# Altium schematic symbol library snes_hook_parts.SchLib: 29 symbols
Pins are listed as number, name and electrical type; pins without a type are passive.

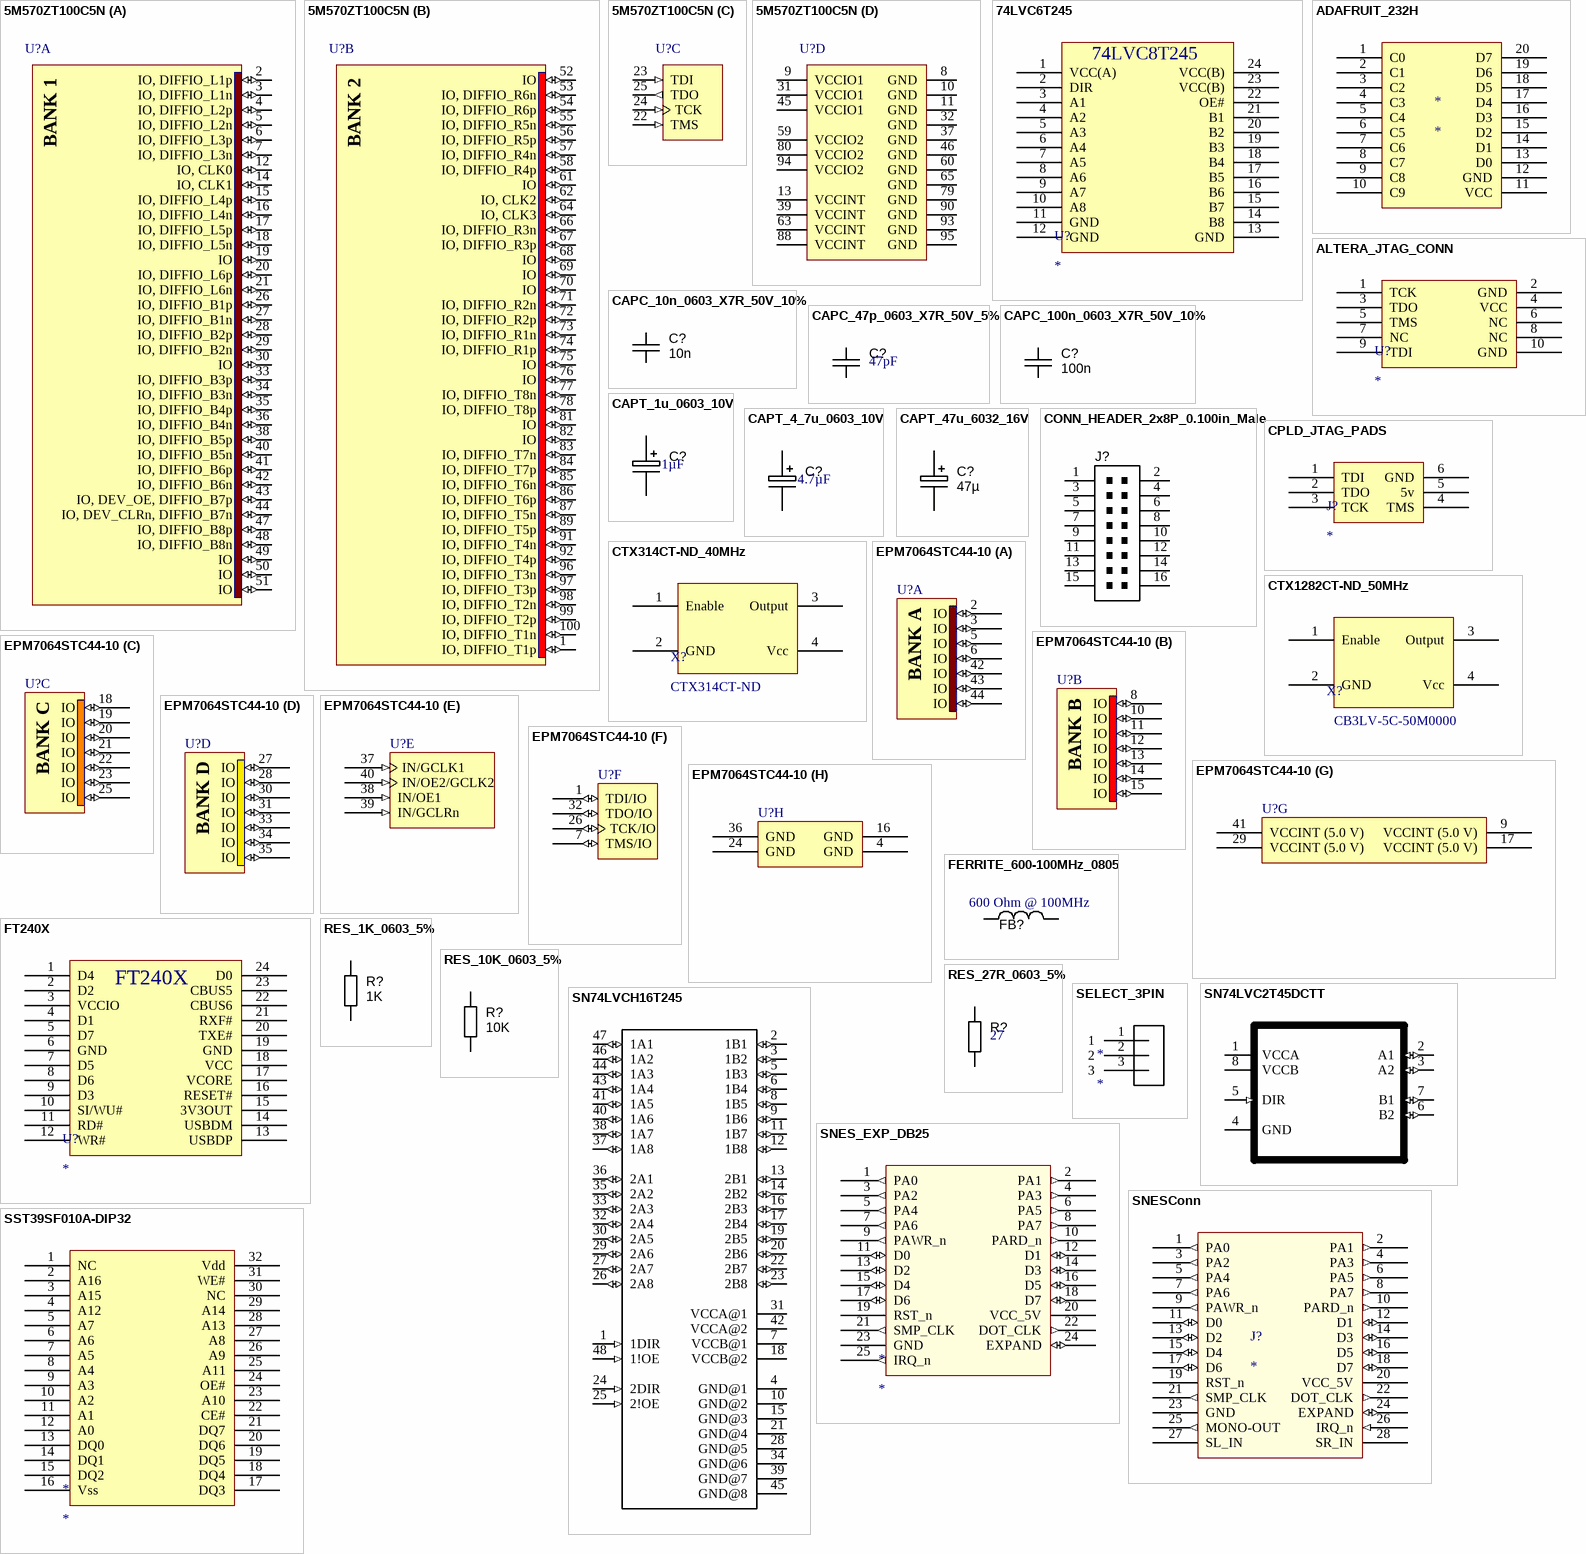
[diagram p0: symbols 5M570ZT100C5N to SST39SF010A-DIP32]

## 5M570ZT100C5N
designator U?
MAX V 1.8V CPLD, 74 IOs, 570 Logic Elements, 100-Pin TQFP, Commercial Temperature, Speed Grade 5, Pb-Free; DatasheetVersion: ver1.2, May-2011; PackageVersion: ver1.0, Jul-2011; PackageReference: TQFP100_A-120; PackageDescription: 100-Pin Plastic Thin Quad Flat Pack (TQFP) - Wire Bond - A:1.20; Code_JEDEC: MS-029-AED; ComponentLink1Description: Manufacturer URL; ComponentLink1URL: http://www.altera.com/; ComponentLink2Description: Datasheet; ComponentLink2URL: http://www.altera.com/literature/hb/max-v/max5_handbook.pdf; ComponentLink3Description: MAX V Device Pin-Out files; ComponentLink3URL: http://www.altera.com/literature/lit-dp.jsp?category=MAX%205&showspreadsheet=y; ComponentLink4Description: Package Specification; ComponentLink4URL: http://www.altera.com/devicepackaging/04R00365-01.pdf
footprint TQFP100_A-120_N (Thin QFP, 100-Leads, Body 14x14mm, Pitch 0.5mm, IPC Medium Density)
footprint TQFP100_A-120_L (Thin QFP, 100-Leads, Body 14x14mm, Pitch 0.5mm, IPC High Density)
footprint TQFP100_A-120_M (Thin QFP, 100-Leads, Body 14x14mm, Pitch 0.5mm, IPC Low Density)
part A pins: 2 IO, DIFFIO_L1p (io), 3 IO, DIFFIO_L1n (io), 4 IO, DIFFIO_L2p (io), 5 IO, DIFFIO_L2n (io), 6 IO, DIFFIO_L3p (io), 7 IO, DIFFIO_L3n (io), 12 IO, CLK0 (io), 14 IO, CLK1 (io), 15 IO, DIFFIO_L4p (io), 16 IO, DIFFIO_L4n (io), 17 IO, DIFFIO_L5p (io), 18 IO, DIFFIO_L5n (io), 19 IO (io), 20 IO, DIFFIO_L6p (io), 21 IO, DIFFIO_L6n (io), 26 IO, DIFFIO_B1p (io), 27 IO, DIFFIO_B1n (io), 28 IO, DIFFIO_B2p (io), 29 IO, DIFFIO_B2n (io), 30 IO (io), 33 IO, DIFFIO_B3p (io), 34 IO, DIFFIO_B3n (io), 35 IO, DIFFIO_B4p (io), 36 IO, DIFFIO_B4n (io), 38 IO, DIFFIO_B5p (io), 40 IO, DIFFIO_B5n (io), 41 IO, DIFFIO_B6p (io), 42 IO, DIFFIO_B6n (io), 43 IO, DEV_OE, DIFFIO_B7p (io), 44 IO, DEV_CLRn, DIFFIO_B7n (io), 47 IO, DIFFIO_B8p (io), 48 IO, DIFFIO_B8n (io), 49 IO (io), 50 IO (io), 51 IO (io)
part B pins: 1 IO, DIFFIO_T1p (io), 52 IO (io), 53 IO, DIFFIO_R6n (io), 54 IO, DIFFIO_R6p (io), 55 IO, DIFFIO_R5n (io), 56 IO, DIFFIO_R5p (io), 57 IO, DIFFIO_R4n (io), 58 IO, DIFFIO_R4p (io), 61 IO (io), 62 IO, CLK2 (io), 64 IO, CLK3 (io), 66 IO, DIFFIO_R3n (io), 67 IO, DIFFIO_R3p (io), 68 IO (io), 69 IO (io), 70 IO (io), 71 IO, DIFFIO_R2n (io), 72 IO, DIFFIO_R2p (io), 73 IO, DIFFIO_R1n (io), 74 IO, DIFFIO_R1p (io), 75 IO (io), 76 IO (io), 77 IO, DIFFIO_T8n (io), 78 IO, DIFFIO_T8p (io), 81 IO (io), 82 IO (io), 83 IO, DIFFIO_T7n (io), 84 IO, DIFFIO_T7p (io), 85 IO, DIFFIO_T6n (io), 86 IO, DIFFIO_T6p (io), 87 IO, DIFFIO_T5n (io), 89 IO, DIFFIO_T5p (io), 91 IO, DIFFIO_T4n (io), 92 IO, DIFFIO_T4p (io), 96 IO, DIFFIO_T3n (io), 97 IO, DIFFIO_T3p (io), 98 IO, DIFFIO_T2n (io), 99 IO, DIFFIO_T2p (io), 100 IO, DIFFIO_T1n (io)
part C pins: 22 TMS (in), 23 TDI (in), 24 TCK (in), 25 TDO (out)
part D pins: 8 GND (power), 9 VCCIO1 (power), 10 GND (power), 11 GND (power), 13 VCCINT (power), 31 VCCIO1 (power), 32 GND (power), 37 GND (power), 39 VCCINT (power), 45 VCCIO1 (power), 46 GND (power), 59 VCCIO2 (power), 60 GND (power), 63 VCCINT (power), 65 GND (power), 79 GND (power), 80 VCCIO2 (power), 88 VCCINT (power), 90 GND (power), 93 GND (power), 94 VCCIO2 (power), 95 GND (power)
part A text: BANK 1
part B text: BANK 2

## 74LVC6T245
designator U?
footprint TSSOP24
pins: 1 VCC(A), 2 DIR, 3 A1, 4 A2, 5 A3, 6 A4, 7 A5, 8 A6, 9 A7, 10 A8, 11 GND, 12 GND, 13 GND, 14 B8, 15 B7, 16 B6, 17 B5, 18 B4, 19 B3, 20 B2, 21 B1, 22 OE#, 23 VCC(B), 24 VCC(B)
text: 74LVC8T245

## ADAFRUIT_232H
designator *
footprint ADAFRUIT_232H
pins: 1 C0, 2 C1, 3 C2, 4 C3, 5 C4, 6 C5, 7 C6, 8 C7, 9 C8, 10 C9, 11 VCC, 12 GND, 13 D0, 14 D1, 15 D2, 16 D3, 17 D4, 18 D5, 19 D6, 20 D7

## ALTERA_JTAG_CONN
designator U?
footprint JTAG_CONN
pins: 1 TCK, 2 GND, 3 TDO, 4 VCC, 5 TMS, 6 NC, 7 NC, 8 NC, 9 TDI, 10 GND

## CAPC_10n_0603_X7R_50V_10%
designator C?, comment value 10n  (hidden comment: approved sub OK)
Capacitor SMD Cer 10nF 10% 50V X7R 0603; Manufacturer 1: TDK Corporation; Manufacturer Part Number 1: C1608X7R1H103K; Ratings: 50V; X7R; Material: ceramic; SCDType: spec; Package / Case: 0603 (1608 metric); Tolerance: ±10%; Supplier 1: Digi-Key; Supplier Part Number 1: 445-1311-1-ND; ComponentLink1URL: http://product.tdk.com/capacitor/mlcc/en/documents/mlcc_commercial_general_en.pdf; ComponentLink1Description: http://product.tdk.com/capacitor/mlcc/en/documents/mlcc_commercial_general_en.pdf; Supplier 2: Digi-Key; Supplier Part Number 2: 478-1227-1-ND; Manufacturer 2: AVX Corporation; Manufacturer Part Number 2: 06035C103KAT2A; ComponentLink2URL: http://www.avx.com/docs/Catalogs/cx7r.pdf; ComponentLink2Description: http://www.avx.com/docs/Catalogs/cx7r.pdf
footprint CAPC1608X90N (Chip Capacitor, Body 1.6x0.8mm, 0603, IPC Medium Density)
pins: 1, 2

## CAPC_47p_0603_X7R_50V_5%
designator C?  Capacitance: 47pF
Capacitor SMD Cer 47pF 5% 50V X7R 0603; Manufacturer 1: Samsung Electro-Mechanics America, Inc.; Manufacturer Part Number 1: CL10C470JB8NCNC; Description 1: CAP CER 47PF 50V NP0 0603; Temperature Coefficient: C0G, NP0; Supplier 1: Digi-Key; RoHS 1: RoHS Compliant; Category 1: Capacitors; Stock 1: 128540; Pricing 1: 1=0.1, 10=0.027, 25=0.0192, 50=0.0148, 100=0.0125, 500=0.00878, 1000=0.00684 (USD); Packaging: Cut Tape (CT); Tolerance: ±5%; Voltage - Rated: 50V; Mounting Type: Surface Mount, MLCC; Operating Temperature: -55°C ~ 125°C; Applications: General Purpose; Ratings: -; Package / Case: 0603 (1608 Metric); Size / Dimension: 0.063" L x 0.031" W (1.60mm x 0.80mm); Height - Seated (Max): -; Thickness (Max): 0.035" (0.90mm); Lead Spacing: -; Features: -; Lead Style: -; ComponentLink1URL: http://media.digikey.com/pdf/Data%20Sheets/Samsung%20PDFs/CL10C470JB8NCNC_Spec.pdf; ComponentLink1Description: http://media.digikey.com/pdf/Data%20Sheets/Samsung%20PDFs/CL10C470JB8NCNC_Spec.pdf; Supplier Part Number 1: 1276-2296-1-ND
footprint CAPC1608X90N (Chip Capacitor, Body 1.6x0.8mm, 0603, IPC Medium Density)
footprint CAPC3216N (Chip Capacitor, Body 3.2x1.6mm, IPC Medium Density)
footprint CAPC2012N (Chip Capacitor, Body 2.0x1.2mm, IPC Medium Density)
pins: 1, 2

## CAPC_100n_0603_X7R_50V_10%
designator C?, comment value 100n  (hidden comment: approved sub OK)
Capacitor SMD Cer 100nF 10% 50V X7R 0603; Manufacturer 1: AVX Corporation; Manufacturer Part Number 1: 06035C104KAT2A; Ratings: 50V; X7R; Material: ceramic; SCDType: spec; Manufacturer 2: TDK Corporation; Manufacturer Part Number 2: C1608X7R1H104K; Package / Case: 0603 (1608 Metric); Tolerance: ±10%; Supplier 1: Digi-Key; Supplier Part Number 1: 478-5052-1-ND; ComponentLink1URL: http://www.avx.com/docs/Catalogs/cx7r.pdf; ComponentLink1Description: http://www.avx.com/docs/Catalogs/cx7r.pdf; Supplier 2: Digi-Key; Supplier Part Number 2: 445-1314-1-ND; ComponentLink2URL: http://product.tdk.com/capacitor/mlcc/en/documents/mlcc_commercial_general_en.pdf; ComponentLink2Description: http://product.tdk.com/capacitor/mlcc/en/documents/mlcc_commercial_general_en.pdf
footprint CAPC1608X90N (Chip Capacitor, Body 1.6x0.8mm, 0603, IPC Medium Density)
pins: 1, 2

## CAPT_1u_0603_10V
designator C?  Capacitance: 1µF
Capacitor SMD 1uF 10% 10V; Manufacturer: Murata Electronics North America; Manufacturer Part Number: GRM155R61A105KE15D; Temperature Coefficient: X5R; Supplier 1: Digi-Key; RoHS: RoHS Compliant; Category: Capacitors; Stock 1: 2730000; Pricing 1: 10000=0.0042, 20000=0.004, 30000=0.0038, 50000=0.0034, 100000=0.00275 (USD); Packaging: Tape & Reel (TR); Tolerance: ±10%; Voltage - Rated: 10V; Mounting Type: Surface Mount, MLCC; Operating Temperature: -55°C ~ 85°C; Applications: General Purpose; Ratings: -; Package / Case: 0402 (1005 Metric); Size / Dimension: 0.039" L x 0.020" W (1.00mm x 0.50mm); Height - Seated (Max): -; Thickness (Max): 0.022" (0.55mm); Lead Spacing: -; Features: -; Lead Style: -; ComponentLink1URL: http://www.murata.com/~/media/webrenewal/support/library/catalog/products/capacitor/mlcc/c02e.pdf; ComponentLink1Description: http://www.murata.com/~/media/webrenewal/support/library/catalog/products/capacitor/mlcc/c02e.pdf; Supplier Part Number 1: 490-3890-2-ND
footprint CAPC1608X90N (Chip Capacitor, Body 1.6x0.8mm, EIA 0603, IPC Medium Density)
pins: 1, 2

## CAPT_4_7u_0603_10V
designator C?  Capacitance: 4.7µF
Capacitor SMD 4.7uF 10% 10V; Manufacturer: Yageo; Manufacturer Part Number: CC0603KRX5R6BB475; Temperature Coefficient: X5R; Supplier 1: Digi-Key; RoHS: RoHS Compliant; Category: Capacitors; Stock 1: 132000; Pricing 1: 4000=0.02154, 8000=0.02003, 12000=0.01903, 28000=0.01803, 100000=0.01365 (USD); Packaging: Tape & Reel (TR); Tolerance: ±10%; Voltage - Rated: 10V; Mounting Type: Surface Mount, MLCC; Operating Temperature: -55°C ~ 85°C; Applications: General Purpose; Ratings: -; Package / Case: 0603 (1608 Metric); Size / Dimension: 0.063" L x 0.031" W (1.60mm x 0.80mm); Height - Seated (Max): -; Thickness (Max): 0.035" (0.90mm); Lead Spacing: -; Features: -; Lead Style: -; ComponentLink1URL: http://www.yageo.com/documents/recent/UPY-GPHC_X5R_4V-to-50V-21.pdf; ComponentLink1Description: http://www.yageo.com/documents/recent/UPY-GPHC_X5R_4V-to-50V-21.pdf; Supplier Part Number 1: 311-1455-2-ND
footprint CAPC1608X90N (Chip Capacitor, Body 1.6x0.8mm, EIA 0603, IPC Medium Density)
pins: 1, 2

## CAPT_47u_6032_16V
designator C?, comment 47µ
Capacitor SMD Tantalum 47uF 10% 16V 6032-28; Manufacturer 1: Vishay/Sprague; Manufacturer Part Number 1: TR3C476K016C0300; SCDType: undef; Package / Case: EIA 535BAAC size C; Ratings: 16V; Tolerance: ±10%; Material: Tantalum; Supplier 1: Digi-Key; Supplier Part Number 1: 718-1332-1-ND; Value: 47µ
footprint CAPMP6032X280N (Capacitor, polarized, Molded Body, EIA 535BAAC size C; 6.00mm L X 3.20mm W X 2.80mm H)
pins: 1, 2

## CONN_HEADER_2x8P_0.100in_Male
designator J?, comment shrouded box header  (value not drawn)
Header THD 16 POS Double-row 2.54mm pitch; Manufacturer 1: 3M; Manufacturer Part Number 1: D2516-6002-AR; Pitch: 0.100" (2.54mm); Value: Double-row, 16 positions; QtyOverride: 1; Connector Type: Header, Shrouded; Number of Positions: 16; SCDType: undef; Package / Case: Connector header; 2.54mm pitch; Contact Type: Male Pin; Number of Rows: 2; Row Spacing: 0.100" (2.54mm); Contact Mating Length: 0.243" (6.17mm); ComponentLink1URL: http://multimedia.3m.com/mws/mediawebserver?66666UuZjcFSLXTtm8T_oxMcEVuQEcuZgVs6EVs6E666666--; ComponentLink1Description: http://multimedia.3m.com/mws/mediawebserver?66666UuZjcFSLXTtm8T_oxMcEVuQEcuZgVs6EVs6E666666--; Supplier 1: Digi-Key; Supplier Part Number 1: MHC16E-ND
footprint 16P_PCB_HEADER_BRD_MNT (HEADER BRD MNT 16POS 2.54MM)
pins: 1, 2, 3, 4, 5, 6, 7, 8, 9, 10, 11, 12, 13, 14, 15, 16

## CPLD_JTAG_PADS
designator J?
Pads for JTAG access
footprint JTAG_BREAKOUT (Small DAQ breakout for hookup to breadboard section)
pins: 1 TDI, 2 TDO, 3 TCK, 4 TMS, 5 5v, 6 GND

## CTX314CT-ND_40MHz
designator X?, comment CTX314CT-ND
40 MHz 5v Oscillator; Manufacturer: CTS-Frequency Controls; Manufacturer Part Number: CB3-3I-40M0000; Frequency: 40MHz; Function: Tri-State (Output Enable); Output: HCMOS, TTL; Frequency Stability: ±50ppm; Current - Supply (Max): 50mA; Current - Supply (Disable) (Max): 10µA; Supplier 1: Digi-Key; RoHS: RoHS Compliant; Category: Crystals and Oscillators; Stock 1: 1257; Pricing 1: 1=1.45, 10=1.392, 50=1.3614, 100=1.1642, 500=1.13344 (USD); Packaging: Cut Tape (CT); Type: XO (Standard); Voltage - Supply: 5V; Operating Temperature: -40°C ~ 85°C; Ratings: -; Mounting Type: Surface Mount; Size / Dimension: 0.276" L x 0.197" W (7.00mm x 5.00mm); Height: 0.067" (1.70mm); Package / Case: 4-SMD, No Lead (DFN, LCC); ComponentLink1URL: http://www.ctscorp.com/components/Datasheets/008-0256-0.pdf; ComponentLink1Description: http://www.ctscorp.com/components/Datasheets/008-0256-0.pdf; Supplier Part Number 1: CTX314CT-ND
footprint OSCILLATOR_7x5 (SMD Crystal 4-lead leadless package)
pins: 1 Enable, 2 GND, 3 Output, 4 Vcc

## CTX1282CT-ND_50MHz
designator X?, comment Manufacturer Part Number: CB3LV-5C-50M0000  (hidden comment: CTX1282CT-ND)
50 MHz 3.3v Oscillator; Manufacturer: CTS-Frequency Controls; Frequency: 50MHz; Function: Tri-State (Output Enable); Output: HCMOS, TTL; Frequency Stability: ±25ppm; Current - Supply (Max): 40mA; Current - Supply (Disable) (Max): 10µA; Supplier 1: Digi-Key; RoHS: RoHS Compliant; Category: Crystals and Oscillators; Stock 1: 628; Pricing 1: 1=1.43, 10=1.374, 50=1.3436, 100=1.1491, 500=1.11872 (USD); Packaging: Cut Tape (CT); Type: XO (Standard); Voltage - Supply: 3.3V; Operating Temperature: -20°C ~ 70°C; Ratings: -; Mounting Type: Surface Mount; Size / Dimension: 0.276" L x 0.197" W (7.00mm x 5.00mm); Height: 0.071" (1.80mm); Package / Case: 4-SMD, No Lead (DFN, LCC); ComponentLink1URL: http://www.ctscorp.com/wp-content/uploads/2015/11/008-0256-0.pdf; ComponentLink1Description: http://www.ctscorp.com/wp-content/uploads/2015/11/008-0256-0.pdf; Supplier Part Number 1: CTX1282CT-ND
footprint OSCILLATOR_7x5 (SMD Crystal 4-lead leadless package)
pins: 1 Enable, 2 GND, 3 Output, 4 Vcc

## EPM7064STC44-10
designator U?
MAX 7000S 5V In-System Programmable CPLD, 64 Macrocells, 44-Pin TQFP, Speed Grade 10, Commercial Grade; Published: 24-Nov-2000; LatestRevisionDate: 13-Apr-2006; LatestRevisionNote: IPC-7351 Footprint Added.; DatasheetVersion: ver6.7, Sep-2005; PackageVersion: ver14.3, Jul-2006; PackageReference: TQFP44; Publisher: Altium Limited; PackageDescription: 44-Pin Plastic Thin Quad Flat Pack (TFQP44); Supplier 1: Digi-Key; Supplier Part Number 1: 544-1200-ND; Code_JEDEC: MS-026-ACB; ComponentLink1Description: Manufacturer Link; ComponentLink1URL: http://www.altera.com/products/devices/max7k/m7k-index.html; ComponentLink2Description: Datasheet; ComponentLink2URL: http://www.altera.com/literature/ds/m7000.pdf; ComponentLink3Description: Packaging Specification; ComponentLink3URL: http://www.altera.com/literature/ds/dspkg.pdf
footprint TQFP44_N (Thin QFP, 44-Leads, Body 10x10mm, Pitch 0.8mm, IPC Medium Density)
footprint TQFP44_L (Thin QFP, 44-Leads, Body 10x10mm, Pitch 0.8mm, IPC High Density)
footprint TQFP44_M (Thin QFP, 44-Leads, Body 10x10mm, Pitch 0.8mm, IPC Low Density)
3D model EPM7064S-TQFP44 (44-Pin Plastic Thin Quad Flat Pack (TFQP44))
signal-integrity model 7k (MAX 7000S)
part A pins: 2 IO (io), 3 IO (io), 5 IO (io), 6 IO (io), 42 IO (io), 43 IO (io), 44 IO (io)
part B pins: 8 IO (io), 10 IO (io), 11 IO (io), 12 IO (io), 13 IO (io), 14 IO (io), 15 IO (io)
part C pins: 18 IO (io), 19 IO (io), 20 IO (io), 21 IO (io), 22 IO (io), 23 IO (io), 25 IO (io)
part D pins: 27 IO (io), 28 IO (io), 30 IO (io), 31 IO (io), 33 IO (io), 34 IO (io), 35 IO (io)
part E pins: 37 IN/GCLK1 (in), 38 IN/OE1 (in), 39 IN/GCLRn (in), 40 IN/OE2/GCLK2 (in)
part F pins: 1 TDI/IO (io), 7 TMS/IO (io), 26 TCK/IO (io), 32 TDO/IO (io)
part G pins: 9 VCCINT (5.0 V) (power), 17 VCCINT (5.0 V) (power), 29 VCCINT (5.0 V) (power), 41 VCCINT (5.0 V) (power)
part H pins: 4 GND (power), 16 GND (power), 24 GND (power), 36 GND (power)
part A text: BANK A
part B text: BANK B
part C text: BANK C
part D text: BANK D

## FERRITE_600-100MHz_0805
designator FB?  Impedance @ Frequency: 600 Ohm @ 100MHz
Ferrite bead 600 Ohm at 100 MHz 1.5A 0805 SMD; Manufacturer 1: Laird-Signal Integrity Products; Manufacturer Part Number 1: MI0805K601R-10; Description 1: FERRITE BEAD 600 OHM 0805; Category 1: Filters; Filter Type: Power Line; Number of Lines: 1; DC Resistance (DCR) (Max): 100 mOhm; Supplier 1: Digi-Key; RoHS 1: RoHS Compliant; Stock 1: 564000; Pricing 1: 4000=0.0225, 8000=0.021, 12000=0.0195, 28000=0.01928, 100000=0.01875 (USD); Packaging: Tape & Reel (TR); Current Rating (Max): 1.5A; Ratings: -; Operating Temperature: -40°C ~ 125°C; Package / Case: 0805 (2012 Metric); Mounting Type: Surface Mount; Height (Max): 0.043" (1.10mm); Size / Dimension: 0.079" L x 0.049" W (2.00mm x 1.25mm); ComponentLink1URL: http://media.digikey.com/pdf/Data%20Sheets/Steward%20PDFs/FerriteEMI_ChipBeads_br.pdf; ComponentLink1Description: http://media.digikey.com/pdf/Data%20Sheets/Steward%20PDFs/FerriteEMI_ChipBeads_br.pdf; Supplier Part Number 1: 240-2390-2-ND
footprint FBC2012N (Ferrite Bead Chip, Body 2.0x1.2mm, 0805, IPC Medium Density)
pins: 1, 2

## FT240X
designator U?
footprint SSOP-24
pins: 1 D4, 2 D2, 3 VCCIO, 4 D1, 5 D7, 6 GND, 7 D5, 8 D6, 9 D3, 10 SI/WU#, 11 RD#, 12 WR#, 13 USBDP, 14 USBDM, 15 3V3OUT, 16 RESET#, 17 VCORE, 18 VCC, 19 GND, 20 TXE#, 21 RXF#, 22 CBUS6, 23 CBUS5, 24 D0

## RES_1K_0603_5%
designator R?, comment value 1K  (hidden comment: Thick Film)
Resistor SMD chip 1k Ohm 0.1W 5% 0603; Manufacturer 1: Yageo; Manufacturer Part Number 1: RC0603JR-071KL; Ratings: 1/10 W; SCDType: spec; Package / Case: 0603 (1608 metric); Tolerance: ±5%; Material: Thick Film; Supplier 1: Digi-Key; Supplier Part Number 1: 311-1.0KGRCT-ND; Supplier 2: Digi-Key; Supplier Part Number 2: 541-1.0KGCT-ND; Manufacturer 2: Vishay Dale; Manufacturer Part Number 2: CRCW06031K00JNEA; ComponentLink2URL: http://www.vishay.com/doc?20008; ComponentLink2Description: http://www.vishay.com/doc?20008; ComponentLink1URL: http://www.yageo.com/documents/recent/PYu-RC0603_51_RoHS_L_4.pdf; ComponentLink1Description: http://www.yageo.com/documents/recent/PYu-RC0603_51_RoHS_L_4.pdf
footprint RESC1608X55N (Chip Resistor, Body 1.6x0.8mm, 0603, IPC Medium Density)
pins: 1, 2

## RES_10K_0603_5%
designator R?, comment value 10K  (hidden comment: Thick Film)
Resistor SMD chip 10k Ohm 0.1W 5% 0603; Manufacturer 1: Yageo; Manufacturer Part Number 1: RC0603JR-0710KL; Ratings: 1/10 W; SCDType: spec; Package / Case: 0603 (1608 metric); Tolerance: ±5%; Material: Thick Film; Supplier 1: Digi-Key; Supplier Part Number 1: 311-10KGRCT-ND; Supplier 2: Digi-Key; Supplier Part Number 2: 541-10KGCT-ND; Manufacturer 2: Vishay Dale; Manufacturer Part Number 2: CRCW060310K0JNEA; ComponentLink2URL: http://www.vishay.com/doc?20035; ComponentLink2Description: http://www.vishay.com/doc?20035; ComponentLink1URL: http://www.yageo.com/documents/recent/PYu-RC0603_51_RoHS_L_4.pdf; ComponentLink1Description: http://www.yageo.com/documents/recent/PYu-RC0603_51_RoHS_L_4.pdf
footprint RESC1608X55N (Chip Resistor, Body 1.6x0.8mm, 0603, IPC Medium Density)
pins: 1, 2

## RES_27R_0603_5%
designator R?, comment Resistance (Ohms): 27  (hidden comment: Thick Film)
Resistor SMD chip 27 Ohm 0.1W 5% 0603; Description 2: RES SMD 27 OHM 5% 1/10W 0603; Power (Watts): 0.1W, 1/10W; Temperature Coefficient: ±100ppm/°C; Supplier 1: Digi-Key; Supplier 2: Digi-Key; Manufacturer 2: Yageo; Manufacturer Part Number 2: RC0603JR-0727RL; RoHS 2: RoHS Compliant; Category 2: Resistors; Stock 2: 134892; Pricing 2: 1=0.1, 10=0.011, 25=0.008, 100=0.0044, 250=0.00336, 500=0.0027, 1000=0.00198, 2500=0.00172 (USD); Packaging: Digi-Reel®; Tolerance: ±5%; Composition: Thick Film; Features: Moisture Resistant; Operating Temperature: -55°C ~ 155°C; Package / Case: 0603 (1608 Metric); Supplier Device Package: 0603; Size / Dimension: 0.063" L x 0.031" W (1.60mm x 0.80mm); Height: 0.022" (0.55mm); Number of Terminations: 2; ComponentLink1URL: http://www.yageo.com/NewPortal/yageodocoutput?fileName=/pdf/R-Chip/PYu-RC_Group_51_RoHS_L_3.pdf; ComponentLink1Description: http://www.yageo.com/NewPortal/yageodocoutput?fileName=/pdf/R-Chip/PYu-RC_Group_51_RoHS_L_3.pdf; Supplier Part Number 1: 311-27GRTR-ND; Supplier Part Number 2: 311-27GRDKR-ND
footprint RESC1608X55N (Chip Resistor, Body 1.6x0.8mm, 0603, IPC Medium Density)
pins: 1, 2

## SELECT_3PIN
designator *
footprint HEADER_3PIN
pins: 1, 2, 3

## SN74LVC2T45DCTT
designator U?  (value not drawn)
Value: *
footprint SOP65P400X130-8N
pins: 1 VCCA (power), 2 A1 (io), 3 A2 (io), 4 GND, 5 DIR (in), 6 B2 (io), 7 B1 (io), 8 VCCB (power)

## SN74LVCH16T245
designator ?  (value not drawn)
Value: *
footprint TSSOP48
pins: 1 1DIR (in), 2 1B1 (io), 3 1B2 (io), 4 GND@1 (power), 5 1B3 (io), 6 1B4 (io), 7 VCCB@1 (power), 8 1B5 (io), 9 1B6 (io), 10 GND@2 (power), 11 1B7 (io), 12 1B8 (io), 13 2B1 (io), 14 2B2 (io), 15 GND@3 (power), 16 2B3 (io), 17 2B4 (io), 18 VCCB@2 (power), 19 2B5 (io), 20 2B6 (io), 21 GND@4 (power), 22 2B7 (io), 23 2B8 (io), 24 2DIR (in), 25 2!OE (in), 26 2A8 (io), 27 2A7 (io), 28 GND@5 (power), 29 2A6 (io), 30 2A5 (io), 31 VCCA@1 (power), 32 2A4 (io), 33 2A3 (io), 34 GND@6 (power), 35 2A2 (io), 36 2A1 (io), 37 1A8 (io), 38 1A7 (io), 39 GND@7 (power), 40 1A6 (io), 41 1A5 (io), 42 VCCA@2 (power), 43 1A4 (io), 44 1A3 (io), 45 GND@8 (power), 46 1A2 (io), 47 1A1 (io), 48 1!OE (in)

## SNES_EXP_DB25
designator *
footprint DB-25_RA_MPLUG
pins: 1 PA0 (out), 2 PA1 (out), 3 PA2 (out), 4 PA3 (out), 5 PA4 (out), 6 PA5 (out), 7 PA6 (out), 8 PA7 (out), 9 PAWR_n (out), 10 PARD_n (out), 11 D0 (io), 12 D1 (io), 13 D2 (io), 14 D3 (io), 15 D4 (io), 16 D5 (io), 17 D6 (io), 18 D7 (io), 19 RST_n, 20 VCC_5V, 21 SMP_CLK (out), 22 DOT_CLK (out), 23 GND, 24 EXPAND (io), 25 IRQ_n (out)

## SNESConn
designator J?
footprint SNES-MEC2-CONN (Male connector for the EXT socket on the SNES)
pins: 1 PA0 (out), 2 PA1 (out), 3 PA2 (out), 4 PA3 (out), 5 PA4 (out), 6 PA5 (out), 7 PA6 (out), 8 PA7 (out), 9 PAWR_n (out), 10 PARD_n (out), 11 D0 (io), 12 D1 (io), 13 D2 (io), 14 D3 (io), 15 D4 (io), 16 D5 (io), 17 D6 (io), 18 D7 (io), 19 RST_n, 20 VCC_5V, 21 SMP_CLK (out), 22 DOT_CLK (out), 23 GND, 24 EXPAND (io), 25 MONO-OUT (out), 26 IRQ_n (in), 27 SL_IN, 28 SR_IN

## SST39SF010A-DIP32
designator *
footprint DIP_SOCKET_16x2
pins: 1 NC, 2 A16, 3 A15, 4 A12, 5 A7, 6 A6, 7 A5, 8 A4, 9 A3, 10 A2, 11 A1, 12 A0, 13 DQ0, 14 DQ1, 15 DQ2, 16 Vss, 17 DQ3, 18 DQ4, 19 DQ5, 20 DQ6, 21 DQ7, 22 CE#, 23 A10, 24 OE#, 25 A11, 26 A9, 27 A8, 28 A13, 29 A14, 30 NC, 31 WE#, 32 Vdd

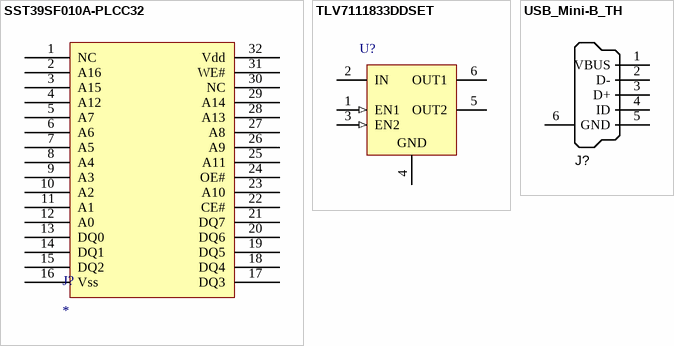
[diagram p1: symbols SST39SF010A-PLCC32 to USB_Mini-B_TH]

## SST39SF010A-PLCC32
designator J?
footprint PLCC_SOCKET_7x9_32P
pins: 1 NC, 2 A16, 3 A15, 4 A12, 5 A7, 6 A6, 7 A5, 8 A4, 9 A3, 10 A2, 11 A1, 12 A0, 13 DQ0, 14 DQ1, 15 DQ2, 16 Vss, 17 DQ3, 18 DQ4, 19 DQ5, 20 DQ6, 21 DQ7, 22 CE#, 23 A10, 24 OE#, 25 A11, 26 A9, 27 A8, 28 A13, 29 A14, 30 NC, 31 WE#, 32 Vdd

## TLV7111833DDSET
designator U?
Dual Output High PSRR LDO, 200 mA, Fixed 1.8, 3.3 V Output, 2 to 5.5 V Input, 6-pin WSON (DSE), -40 to 125 degC, Green (RoHS & no Sb/Br); Manufacturer: Texas Instruments; PartNumber: TLV7111833DDSET; Iout(Max)(A): 0.2; Iq(Typ)(mA): 0.03; SubFamily: Dual Channel LDO; Vdo(Typ)(mV): 150; Vin(Max)(V): 5.5; Vin(Min)(V): 2; DatasheetVersion: SBVS142A; PackageVersion: 4207810/A; PackageReference: DSE6; PackageDescription: 6-Pin Plastic Small Outline, Body 1.5 x 1.5 mm, Pitch 0.5 mm; Supplier 1: Digi-Key; Supplier Part Number 1: 296-29756-2-ND; Supplier 2: Digi-Key; Supplier Part Number 2: 296-29756-1-ND; Supplier 3: Digi-Key; Supplier Part Number 3: 296-29756-6-ND; Supplier 4: Farnell; Supplier Part Number 4: 2064246RL; Supplier 5: Farnell; Supplier Part Number 5: 2064246; Supplier 6: Mouser; Supplier Part Number 6: 595-TLV7111833DDSET; Eco-Plan: Green (RoHS & no Sb/Br); Fixed Output Options(V): 1.8, 3.3; Mounting Technology: Surface Mount; ComponentLink1Description: Manufacturer URL; ComponentLink1URL: http://www.ti.com/; ComponentLink2Description: Datasheet; ComponentLink2URL: http://www.ti.com/general/docs/lit/getliterature.tsp?genericPartNumber=TLV7111833D&fileType=pdf; ComponentLink3Description: Package Specification; ComponentLink3URL: http://www.ti.com/litv/pdf/mpds287
footprint TI-DSE6_V (SON, 6-Leads, Body 1.5x1.5mm, Pitch 0.5mm)
pins: 1 EN1 (in) "Enable pin for regulator 1.Driving EN1 over 0.9V turns on regulator 1. Driving EN below0.4V puts regulator 1 into shutdown mode.", 2 IN (power) "Input pin. A small capacitor is needed from this pin to ground to assure stability. See Input and Output Capacitor Requirements in the Application Information section for more details.", 3 EN2 (in) "Enable pin for regulator 2.Driving EN2 over 0.9V turns on regulator 2. Driving EN2 below 0.4V puts regulator 2 into shutdown mode.", 4 GND (power) "Ground pin", 5 OUT2 (power) "Regulated output voltage pin. A small 1mF ceramic capacitor is needed from this pin to ground to assure stability. See Input and Output Capacitor Requirements in the Application Information section for more details.", 6 OUT1 (power) "Regulated output voltage pin. A small 1mF ceramic capacitor is needed from this pin to ground to assure stability. See Input and Output Capacitor Requirements in the Application Information section for more details."

## USB_Mini-B_TH
designator J?  (value not drawn)
Connector TH USB Type Mini-B; Manufacturer: Wurth Electronics Inc; Manufacturer Part Number: 651005136521; Connector Type: USB - mini B; Number of Contacts: 5; Gender: Receptacle; Supplier 1: Digi-Key; RoHS: RoHS Compliant; Category: Connectors, Interconnects; Stock 1: 3626; Pricing 1: 1=2.44, 10=2.113, 100=1.9906, 250=1.78752, 500=1.625 (USD); Packaging: Tube; Specifications: -; Mounting Type: Through Hole, Right Angle, Horizontal; Features: Board Guide, Shielded; Ingress Protection: -; ComponentLink1URL: http://katalog.we-online.de/em/datasheet/651005136521.pdf; ComponentLink1Description: http://katalog.we-online.de/em/datasheet/651005136521.pdf
footprint USB_MINI-B_WURTH-TH
pins: 1 VBUS, 2 D-, 3 D+, 4 ID, 5 GND, 6 Shell